# Altium footprint library Memory Footprints.PcbLib: 2 footprints
Each footprint in its own frame and in the unit in brackets; x right, y up, seen from the top. Pads: shape width x height; smd on the part's side, far side on the other; paste and mask are expansions set on the pad; w line width, h text height; cw(c..) or ccw(c..) is an arc to the next point about the centre after c.
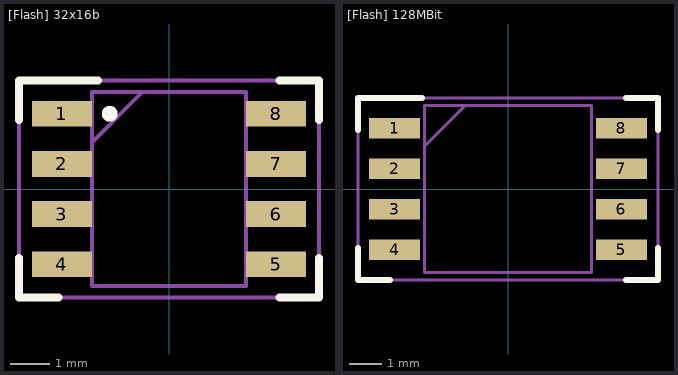
[diagram p0: the footprints below, top view; thin cyan lines are the x and y axes]

## [Flash] 32x16b [mm]
pads (8):
  rect 1.528x0.65 smd: 1(-2.711,1.905) 2(-2.711,0.635) 3(-2.711,-0.635) 4(-2.711,-1.905) 5(2.711,-1.905) 6(2.711,-0.635) 7(2.711,0.635) 8(2.711,1.905)
Top Overlay:
  circle w0.2: c-1.5,1.905 r0.1
  lines w0.2: -3.8,-1.75 -3.8,-2.75 -2.8,-2.75 ; -3.8,1.75 -3.8,2.75 -1.8,2.75 ; 2.8,-2.75 3.8,-2.75 3.8,-1.75 ; 2.8,2.75 3.8,2.75 3.8,1.75
Mechanical 13:
  lines w0.1: -1.948,1.182 -0.678,2.452 ; -1.948,-2.452 -1.948,2.452 1.948,2.452 1.948,-2.452 -1.948,-2.452
Mechanical 15:
  lines w0.1: -3.8,-2.75 -3.8,2.75 3.8,2.75 3.8,-2.75 -3.8,-2.75
3D body "TMCS1100A3QDR.stp": height 1.63, standoff 0, extent -3.011,-2.451 3.011,2.451

## [Flash] 128MBit [mm] "W25Q128JVSIM"
pads (8):
  rect 1.6x0.65 smd: 1(-3.55,1.905) 2(-3.55,0.635) 3(-3.55,-0.635) 4(-3.55,-1.905) 5(3.55,-1.905) 6(3.55,-0.635) 7(3.55,0.635) 8(3.55,1.905)
Top Overlay:
  lines w0.2: -4.7,-1.85 -4.7,-2.85 -3.7,-2.85 ; -4.7,1.85 -4.7,2.85 -2.7,2.85 ; 3.7,-2.85 4.7,-2.85 4.7,-1.85 ; 3.7,2.85 4.7,2.85 4.7,1.85
Mechanical 13:
  lines w0.1: -2.615,1.345 -1.345,2.615 ; -2.615,-2.615 2.615,-2.615 2.615,2.615 -2.615,2.615 -2.615,-2.615
Mechanical 15:
  lines w0.1: -4.7,-2.85 4.7,-2.85 4.7,2.85 -4.7,2.85 -4.7,-2.85
3D body "W25Q128JVSIQ_TR.stp": height 1.95, standoff 0, extent -3.9,-2.615 3.9,2.615